# Altium integrated library C39 2200pF.IntLib: 1 symbol
Pins are listed as number, name and electrical type; pins without a type are passive.

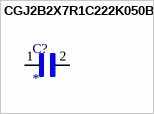
[diagram p0: symbol CGJ2B2X7R1C222K050BA]

## CGJ2B2X7R1C222K050BA
designator C?
High Reliability - Autograde Plus+, Reel Size: 7" (180mm); MP: CGJ2B2X7R1C222K050BA; Package: None; Price: None; Value: *; Availability: Unavailable
footprint CAPC1005X55N
pins: 1, 2